# Altium schematic symbol library 74439346068.SchLib: 1 symbol
Pins are listed as number, name and electrical type; pins without a type are passive.

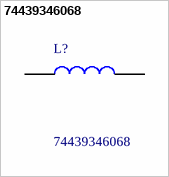
[diagram p0: symbol 74439346068]

## 74439346068
designator L?
WE-XHMI SMT Power Inductor Size 6060; L = 6,8 H ; IR = 6,5 A; Isat = 10 A; RDC = 17,6 m; Manufacturer_Name: Wurth Elektronik; Geometry.Height: 6.1mm; Manufacturer_Part_Number: 74439346068; Mouser Part Number: 710-74439346068; Mouser Price/Stock: https://www.mouser.co.uk/ProductDetail/Wurth-Elektronik/74439346068?qs=NSAOzM2zc%2FVj5BeHYKNgfQ%3D%3D; Arrow Part Number: *; Arrow Price/Stock: *; Datasheet Link: https://www.we-online.com/catalog/datasheet/74439346068.pdf
footprint 74439346068
pins: 1 COIL_, 2 COIL